# EAGLE library part XC7A50T-2FTG256I (library XC7A50T-2FTG256I)
Artix-7 Field Programmable Gate Array (FPGA) IC 170 2764800 52160 256-LBGA Check availability <https://pricing.snapeda.com/parts/XC7A50T-2FTG256I/Xilinx%20Inc./view-part?ref=eda>
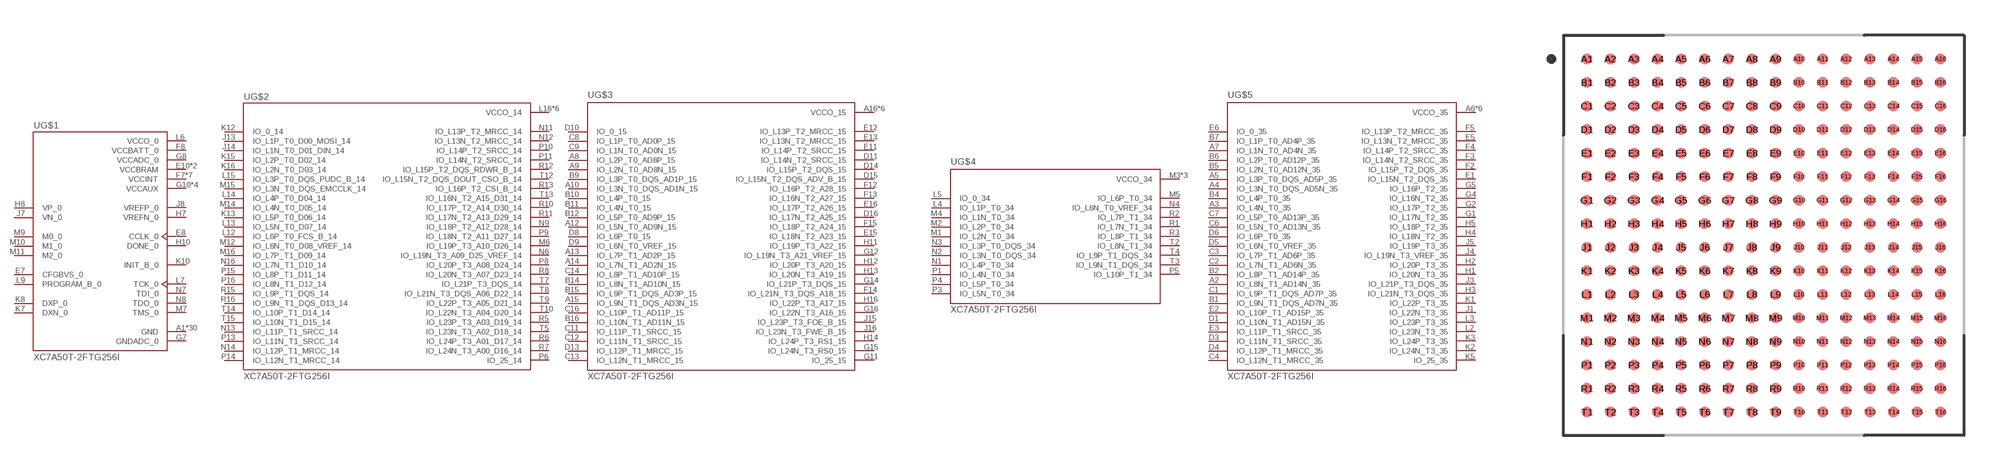
[diagram p0: symbol with the pads of BGA256C100P16X16_1700X1700X155; footprint BGA256C100P16X16_1700X1700X155]

Designator prefix U; gates G$1=XC7A50T-2FTG256I_SECTION1 G$2=XC7A50T-2FTG256I_SECTION2 G$3=XC7A50T-2FTG256I_SECTION3 G$4=XC7A50T-2FTG256I_SECTION4 G$5=XC7A50T-2FTG256I_SECTION5

## XC7A50T-2FTG256I (Availability: In Stock; Check_prices: https://www.snapeda.com/parts/XC7A50T-2FTG256I/Xilinx/view-part/?ref=eda; Description: Artix-7 Field Programmable Gate Array (FPGA) IC 170 2764800 52160 256-LBGA; MF: Xilinx Inc.; MP: XC7A50T-2FTG256I; Package: LBGA-256 Xilinx Inc.; Price: None; SnapEDA_Link: https://www.snapeda.com/parts/XC7A50T-2FTG256I/Xilinx/view-part/?ref=snap)  [BGA256C100P16X16_1700X1700X155]
A1  G$1:GND  pwr
A2  G$5:IO_L8N_T1_AD14N_35
A3  G$5:IO_L4N_T0_35
A4  G$5:IO_L3N_T0_DQS_AD5N_35
A5  G$5:IO_L3P_T0_DQS_AD5P_35
A6  G$5:VCCO_35  pwr
A7  G$5:IO_L1N_T0_AD4N_35
A8  G$3:IO_L2P_T0_AD8P_15
A9  G$3:IO_L2N_T0_AD8N_15
A10  G$3:IO_L3N_T0_DQS_AD1N_15
A11  G$1:GND  pwr
A12  G$3:IO_L5N_T0_AD9N_15
A13  G$3:IO_L7P_T1_AD2P_15
A14  G$3:IO_L7N_T1_AD2N_15
A15  G$3:IO_L9N_T1_DQS_AD3N_15
A16  G$3:VCCO_15  pwr
B1  G$5:IO_L9N_T1_DQS_AD7N_35
B2  G$5:IO_L8P_T1_AD14P_35
B3  G$5:VCCO_35  pwr
B4  G$5:IO_L4P_T0_35
B5  G$5:IO_L2N_T0_AD12N_35
B6  G$5:IO_L2P_T0_AD12P_35
B7  G$5:IO_L1P_T0_AD4P_35
B8  G$1:GND  pwr
B9  G$3:IO_L3P_T0_DQS_AD1P_15
B10  G$3:IO_L4P_T0_15
B11  G$3:IO_L4N_T0_15
B12  G$3:IO_L5P_T0_AD9P_15
B13  G$3:VCCO_15  pwr
B14  G$3:IO_L8N_T1_AD10N_15
B15  G$3:IO_L9P_T1_DQS_AD3P_15
B16  G$3:IO_L10N_T1_AD11N_15
C1  G$5:IO_L9P_T1_DQS_AD7P_35
C2  G$5:IO_L7N_T1_AD6N_35
C3  G$5:IO_L7P_T1_AD6P_35
C4  G$5:IO_L12N_T1_MRCC_35
C5  G$1:GND  pwr
C6  G$5:IO_L5N_T0_AD13N_35
C7  G$5:IO_L5P_T0_AD13P_35
C8  G$3:IO_L1P_T0_AD0P_15
C9  G$3:IO_L1N_T0_AD0N_15
C10  G$3:VCCO_15  pwr
C11  G$3:IO_L11P_T1_SRCC_15
C12  G$3:IO_L11N_T1_SRCC_15
C13  G$3:IO_L12N_T1_MRCC_15
C14  G$3:IO_L8P_T1_AD10P_15
C15  G$1:GND  pwr
C16  G$3:IO_L10P_T1_AD11P_15
D1  G$5:IO_L10N_T1_AD15N_35
D2  G$1:GND  pwr
D3  G$5:IO_L11N_T1_SRCC_35
D4  G$5:IO_L12P_T1_MRCC_35
D5  G$5:IO_L6N_T0_VREF_35
D6  G$5:IO_L6P_T0_35
D7  G$5:VCCO_35  pwr
D8  G$3:IO_L6P_T0_15
D9  G$3:IO_L6N_T0_VREF_15
D10  G$3:IO_0_15
D11  G$3:IO_L14N_T2_SRCC_15
D12  G$1:GND  pwr
D13  G$3:IO_L12P_T1_MRCC_15
D14  G$3:IO_L15P_T2_DQS_15
D15  G$3:IO_L15N_T2_DQS_ADV_B_15
D16  G$3:IO_L17N_T2_A25_15
E1  G$5:IO_L15N_T2_DQS_35
E2  G$5:IO_L10P_T1_AD15P_35
E3  G$5:IO_L11P_T1_SRCC_35
E4  G$5:VCCO_35  pwr
E5  G$5:IO_L13N_T2_MRCC_35
E6  G$5:IO_0_35
E7  G$1:CFGBVS_0  in
E8  G$1:CCLK_0
E9  G$1:GND  pwr
E10  G$1:VCCBRAM  pwr
E11  G$3:IO_L14P_T2_SRCC_15
E12  G$3:IO_L13P_T2_MRCC_15
E13  G$3:IO_L13N_T2_MRCC_15
E14  G$3:VCCO_15  pwr
E15  G$3:IO_L18N_T2_A23_15
E16  G$3:IO_L17P_T2_A26_15
F1  G$5:VCCO_35  pwr
F2  G$5:IO_L15P_T2_DQS_35
F3  G$5:IO_L14N_T2_SRCC_35
F4  G$5:IO_L14P_T2_SRCC_35
F5  G$5:IO_L13P_T2_MRCC_35
F6  G$1:GND  pwr
F7  G$1:VCCINT  pwr
F8  G$1:VCCBATT_0  pwr
F9  G$1:VCCINT  pwr
F10  G$1:GND  pwr
F11  G$1:VCCBRAM  pwr
F12  G$3:IO_L16P_T2_A28_15
F13  G$3:IO_L16N_T2_A27_15
F14  G$3:IO_L21N_T3_DQS_A18_15
F15  G$3:IO_L18P_T2_A24_15
F16  G$1:GND  pwr
G1  G$5:IO_L17N_T2_35
G2  G$5:IO_L17P_T2_35
G3  G$1:GND  pwr
G4  G$5:IO_L16N_T2_35
G5  G$5:IO_L16P_T2_35
G6  G$1:VCCINT  pwr
G7  G$1:GNDADC_0  pwr
G8  G$1:VCCADC_0  pwr
G9  G$1:GND  pwr
G10  G$1:VCCAUX  pwr
G11  G$3:IO_25_15
G12  G$3:IO_L19N_T3_A21_VREF_15
G13  G$1:GND  pwr
G14  G$3:IO_L21P_T3_DQS_15
G15  G$3:IO_L24N_T3_RS0_15
G16  G$3:IO_L22N_T3_A16_15
H1  G$5:IO_L20N_T3_35
H2  G$5:IO_L20P_T3_35
H3  G$5:IO_L21N_T3_DQS_35
H4  G$5:IO_L18N_T2_35
H5  G$5:IO_L18P_T2_35
H6  G$1:GND  pwr
H7  G$1:VREFN_0
H8  G$1:VP_0  in
H9  G$1:VCCINT  pwr
H10  G$1:DONE_0
H11  G$3:IO_L19P_T3_A22_15
H12  G$3:IO_L20P_T3_A20_15
H13  G$3:IO_L20N_T3_A19_15
H14  G$3:IO_L24P_T3_RS1_15
H15  G$3:VCCO_15  pwr
H16  G$3:IO_L22P_T3_A17_15
J1  G$5:IO_L22N_T3_35
J2  G$5:VCCO_35  pwr
J3  G$5:IO_L21P_T3_DQS_35
J4  G$5:IO_L19N_T3_VREF_35
J5  G$5:IO_L19P_T3_35
J6  G$1:VCCINT  pwr
J7  G$1:VN_0  in
J8  G$1:VREFP_0
J9  G$1:GND  pwr
J10  G$1:VCCAUX  pwr
J11  G$1:GND  pwr
J12  G$3:VCCO_15  pwr
J13  G$2:IO_L1P_T0_D00_MOSI_14
J14  G$2:IO_L1N_T0_D01_DIN_14
J15  G$3:IO_L23P_T3_FOE_B_15
J16  G$3:IO_L23N_T3_FWE_B_15
K1  G$5:IO_L22P_T3_35
K2  G$5:IO_L24N_T3_35
K3  G$5:IO_L24P_T3_35
K4  G$1:GND  pwr
K5  G$5:IO_25_35
K6  G$1:GND  pwr
K7  G$1:DXN_0
K8  G$1:DXP_0
K9  G$1:VCCINT  pwr
K10  G$1:INIT_B_0
K11  G$1:VCCAUX  pwr
K12  G$2:IO_0_14
K13  G$2:IO_L5P_T0_D06_14
K14  G$1:GND  pwr
K15  G$2:IO_L2P_T0_D02_14
K16  G$2:IO_L2N_T0_D03_14
L1  G$1:GND  pwr
L2  G$5:IO_L23N_T3_35
L3  G$5:IO_L23P_T3_35
L4  G$4:IO_L1P_T0_34
L5  G$4:IO_0_34
L6  G$1:VCCO_0  pwr
L7  G$1:TCK_0  in
L8  G$1:VCCINT  pwr
L9  G$1:PROGRAM_B_0  in
L10  G$1:VCCAUX  pwr
L11  G$1:GND  pwr
L12  G$2:IO_L6P_T0_FCS_B_14
L13  G$2:IO_L5N_T0_D07_14
L14  G$2:IO_L4P_T0_D04_14
L15  G$2:IO_L3P_T0_DQS_PUDC_B_14
L16  G$2:VCCO_14  pwr
M1  G$4:IO_L2N_T0_34
M2  G$4:IO_L2P_T0_34
M3  G$4:VCCO_34  pwr
M4  G$4:IO_L1N_T0_34
M5  G$4:IO_L6P_T0_34
M6  G$2:IO_L19P_T3_A10_D26_14
M7  G$1:TMS_0  in
M8  G$1:GND  pwr
M9  G$1:M0_0  in
M10  G$1:M1_0  in
M11  G$1:M2_0  in
M12  G$2:IO_L6N_T0_D08_VREF_14
M13  G$2:VCCO_14  pwr
M14  G$2:IO_L4N_T0_D05_14
M15  G$2:IO_L3N_T0_DQS_EMCCLK_14
M16  G$2:IO_L7P_T1_D09_14
N1  G$4:IO_L4P_T0_34
N2  G$4:IO_L3N_T0_DQS_34
N3  G$4:IO_L3P_T0_DQS_34
N4  G$4:IO_L6N_T0_VREF_34
N5  G$1:GND  pwr
N6  G$2:IO_L19N_T3_A09_D25_VREF_14
N7  G$1:TDI_0  in
N8  G$1:TDO_0  out
N9  G$2:IO_L18P_T2_A12_D28_14
N10  G$2:VCCO_14  pwr
N11  G$2:IO_L13P_T2_MRCC_14
N12  G$2:IO_L13N_T2_MRCC_14
N13  G$2:IO_L11P_T1_SRCC_14
N14  G$2:IO_L12P_T1_MRCC_14
N15  G$1:GND  pwr
N16  G$2:IO_L7N_T1_D10_14
P1  G$4:IO_L4N_T0_34
P2  G$1:GND  pwr
P3  G$4:IO_L5N_T0_34
P4  G$4:IO_L5P_T0_34
P5  G$4:IO_L10P_T1_34
P6  G$2:IO_25_14
P7  G$2:VCCO_14  pwr
P8  G$2:IO_L20P_T3_A08_D24_14
P9  G$2:IO_L18N_T2_A11_D27_14
P10  G$2:IO_L14P_T2_SRCC_14
P11  G$2:IO_L14N_T2_SRCC_14
P12  G$1:GND  pwr
P13  G$2:IO_L11N_T1_SRCC_14
P14  G$2:IO_L12N_T1_MRCC_14
P15  G$2:IO_L8P_T1_D11_14
P16  G$2:IO_L8N_T1_D12_14
R1  G$4:IO_L7N_T1_34
R2  G$4:IO_L7P_T1_34
R3  G$4:IO_L8P_T1_34
R4  G$4:VCCO_34  pwr
R5  G$2:IO_L23P_T3_A03_D19_14
R6  G$2:IO_L24P_T3_A01_D17_14
R7  G$2:IO_L24N_T3_A00_D16_14
R8  G$2:IO_L20N_T3_A07_D23_14
R9  G$1:GND  pwr
R10  G$2:IO_L17P_T2_A14_D30_14
R11  G$2:IO_L17N_T2_A13_D29_14
R12  G$2:IO_L15P_T2_DQS_RDWR_B_14
R13  G$2:IO_L16P_T2_CSI_B_14
R14  G$2:VCCO_14  pwr
R15  G$2:IO_L9P_T1_DQS_14
R16  G$2:IO_L9N_T1_DQS_D13_14
T1  G$4:VCCO_34  pwr
T2  G$4:IO_L8N_T1_34
T3  G$4:IO_L9N_T1_DQS_34
T4  G$4:IO_L9P_T1_DQS_34
T5  G$2:IO_L23N_T3_A02_D18_14
T6  G$1:GND  pwr
T7  G$2:IO_L21P_T3_DQS_14
T8  G$2:IO_L21N_T3_DQS_A06_D22_14
T9  G$2:IO_L22P_T3_A05_D21_14
T10  G$2:IO_L22N_T3_A04_D20_14
T11  G$2:VCCO_14  pwr
T12  G$2:IO_L15N_T2_DQS_DOUT_CSO_B_14
T13  G$2:IO_L16N_T2_A15_D31_14
T14  G$2:IO_L10P_T1_D14_14
T15  G$2:IO_L10N_T1_D15_14
T16  G$1:GND  pwr

## Footprint BGA256C100P16X16_1700X1700X155 (pad centres in mm)
smd 0.45 x 0.45: A1 -7.5,7.5; A2 -6.5,7.5; A3 -5.5,7.5; A4 -4.5,7.5; A5 -3.5,7.5; A6 -2.5,7.5; A7 -1.5,7.5; A8 -0.5,7.5; A9 0.5,7.5; A10 1.5,7.5; A11 2.5,7.5; A12 3.5,7.5; A13 4.5,7.5; A14 5.5,7.5; A15 6.5,7.5; A16 7.5,7.5; B1 -7.5,6.5; B2 -6.5,6.5; B3 -5.5,6.5; B4 -4.5,6.5; B5 -3.5,6.5; B6 -2.5,6.5; B7 -1.5,6.5; B8 -0.5,6.5; B9 0.5,6.5; B10 1.5,6.5; B11 2.5,6.5; B12 3.5,6.5; B13 4.5,6.5; B14 5.5,6.5; B15 6.5,6.5; B16 7.5,6.5; C1 -7.5,5.5; C2 -6.5,5.5; C3 -5.5,5.5; C4 -4.5,5.5; C5 -3.5,5.5; C6 -2.5,5.5; C7 -1.5,5.5; C8 -0.5,5.5; C9 0.5,5.5; C10 1.5,5.5; C11 2.5,5.5; C12 3.5,5.5; C13 4.5,5.5; C14 5.5,5.5; C15 6.5,5.5; C16 7.5,5.5; D1 -7.5,4.5; D2 -6.5,4.5; D3 -5.5,4.5; D4 -4.5,4.5; D5 -3.5,4.5; D6 -2.5,4.5; D7 -1.5,4.5; D8 -0.5,4.5; D9 0.5,4.5; D10 1.5,4.5; D11 2.5,4.5; D12 3.5,4.5; D13 4.5,4.5; D14 5.5,4.5; D15 6.5,4.5; D16 7.5,4.5; E1 -7.5,3.5; E2 -6.5,3.5; E3 -5.5,3.5; E4 -4.5,3.5; E5 -3.5,3.5; E6 -2.5,3.5; E7 -1.5,3.5; E8 -0.5,3.5; E9 0.5,3.5; E10 1.5,3.5; E11 2.5,3.5; E12 3.5,3.5; E13 4.5,3.5; E14 5.5,3.5; E15 6.5,3.5; E16 7.5,3.5; F1 -7.5,2.5; F2 -6.5,2.5; F3 -5.5,2.5; F4 -4.5,2.5; F5 -3.5,2.5; F6 -2.5,2.5; F7 -1.5,2.5; F8 -0.5,2.5; F9 0.5,2.5; F10 1.5,2.5; F11 2.5,2.5; F12 3.5,2.5; F13 4.5,2.5; F14 5.5,2.5; F15 6.5,2.5; F16 7.5,2.5; G1 -7.5,1.5; G2 -6.5,1.5; G3 -5.5,1.5; G4 -4.5,1.5; G5 -3.5,1.5; G6 -2.5,1.5; G7 -1.5,1.5; G8 -0.5,1.5; G9 0.5,1.5; G10 1.5,1.5; G11 2.5,1.5; G12 3.5,1.5; G13 4.5,1.5; G14 5.5,1.5; G15 6.5,1.5; G16 7.5,1.5; H1 -7.5,0.5; H2 -6.5,0.5; H3 -5.5,0.5; H4 -4.5,0.5; H5 -3.5,0.5; H6 -2.5,0.5; H7 -1.5,0.5; H8 -0.5,0.5; H9 0.5,0.5; H10 1.5,0.5; H11 2.5,0.5; H12 3.5,0.5; H13 4.5,0.5; H14 5.5,0.5; H15 6.5,0.5; H16 7.5,0.5; J1 -7.5,-0.5; J2 -6.5,-0.5; J3 -5.5,-0.5; J4 -4.5,-0.5; J5 -3.5,-0.5; J6 -2.5,-0.5; J7 -1.5,-0.5; J8 -0.5,-0.5; J9 0.5,-0.5; J10 1.5,-0.5; J11 2.5,-0.5; J12 3.5,-0.5; J13 4.5,-0.5; J14 5.5,-0.5; J15 6.5,-0.5; J16 7.5,-0.5; K1 -7.5,-1.5; K2 -6.5,-1.5; K3 -5.5,-1.5; K4 -4.5,-1.5; K5 -3.5,-1.5; K6 -2.5,-1.5; K7 -1.5,-1.5; K8 -0.5,-1.5; K9 0.5,-1.5; K10 1.5,-1.5; K11 2.5,-1.5; K12 3.5,-1.5; K13 4.5,-1.5; K14 5.5,-1.5; K15 6.5,-1.5; K16 7.5,-1.5; L1 -7.5,-2.5; L2 -6.5,-2.5; L3 -5.5,-2.5; L4 -4.5,-2.5; L5 -3.5,-2.5; L6 -2.5,-2.5; L7 -1.5,-2.5; L8 -0.5,-2.5; L9 0.5,-2.5; L10 1.5,-2.5; L11 2.5,-2.5; L12 3.5,-2.5; L13 4.5,-2.5; L14 5.5,-2.5; L15 6.5,-2.5; L16 7.5,-2.5; M1 -7.5,-3.5; M2 -6.5,-3.5; M3 -5.5,-3.5; M4 -4.5,-3.5; M5 -3.5,-3.5; M6 -2.5,-3.5; M7 -1.5,-3.5; M8 -0.5,-3.5; M9 0.5,-3.5; M10 1.5,-3.5; M11 2.5,-3.5; M12 3.5,-3.5; M13 4.5,-3.5; M14 5.5,-3.5; M15 6.5,-3.5; M16 7.5,-3.5; N1 -7.5,-4.5; N2 -6.5,-4.5; N3 -5.5,-4.5; N4 -4.5,-4.5; N5 -3.5,-4.5; N6 -2.5,-4.5; N7 -1.5,-4.5; N8 -0.5,-4.5; N9 0.5,-4.5; N10 1.5,-4.5; N11 2.5,-4.5; N12 3.5,-4.5; N13 4.5,-4.5; N14 5.5,-4.5; N15 6.5,-4.5; N16 7.5,-4.5; P1 -7.5,-5.5; P2 -6.5,-5.5; P3 -5.5,-5.5; P4 -4.5,-5.5; P5 -3.5,-5.5; P6 -2.5,-5.5; P7 -1.5,-5.5; P8 -0.5,-5.5; P9 0.5,-5.5; P10 1.5,-5.5; P11 2.5,-5.5; P12 3.5,-5.5; P13 4.5,-5.5; P14 5.5,-5.5; P15 6.5,-5.5; P16 7.5,-5.5; R1 -7.5,-6.5; R2 -6.5,-6.5; R3 -5.5,-6.5; R4 -4.5,-6.5; R5 -3.5,-6.5; R6 -2.5,-6.5; R7 -1.5,-6.5; R8 -0.5,-6.5; R9 0.5,-6.5; R10 1.5,-6.5; R11 2.5,-6.5; R12 3.5,-6.5; R13 4.5,-6.5; R14 5.5,-6.5; R15 6.5,-6.5; R16 7.5,-6.5; T1 -7.5,-7.5; T2 -6.5,-7.5; T3 -5.5,-7.5; T4 -4.5,-7.5; T5 -3.5,-7.5; T6 -2.5,-7.5; T7 -1.5,-7.5; T8 -0.5,-7.5; T9 0.5,-7.5; T10 1.5,-7.5; T11 2.5,-7.5; T12 3.5,-7.5; T13 4.5,-7.5; T14 5.5,-7.5; T15 6.5,-7.5; T16 7.5,-7.5